# EAGLE library part USB (library usb)
USB Port
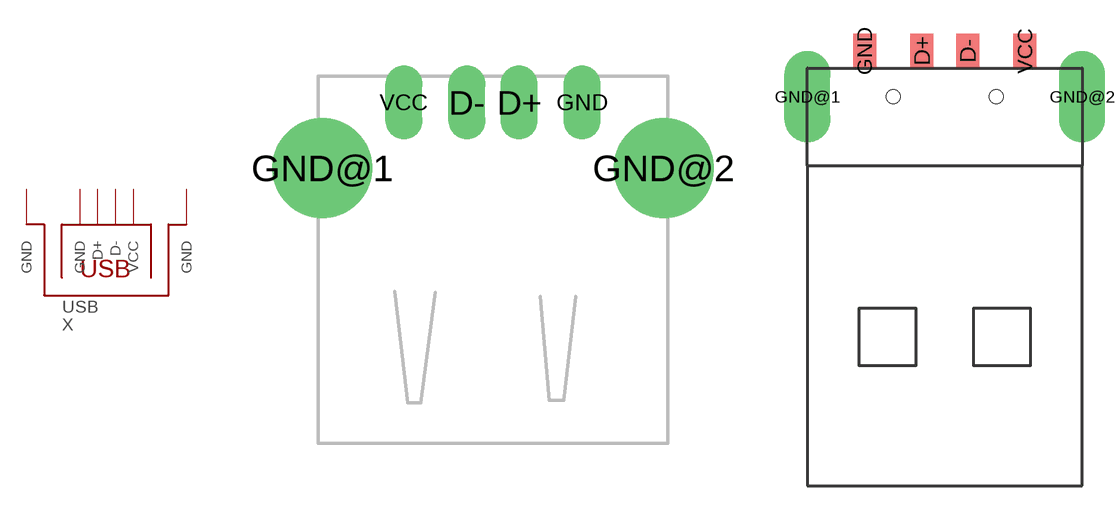
[diagram p3: symbol with the pads of USB-FEMALE; footprints USB-FEMALE, USB]

Designator prefix X

## USB-FEMALE  [USB-FEMALE]
D+  D+
D-  D-
GND  GND  pwr
GND@1  GND  pwr
GND@2  GND  pwr
VCC  VCC  pwr

## USB-MALE  [USB]
D+  D+
D-  D-
GND  GND  pwr
GND@1  GND  pwr
GND@2  GND  pwr
VCC  VCC  pwr

## Footprint USB-FEMALE (pad centres in mm)
drill 0.9 long: D+ 4.4,0; D- 2.4,0; GND 6.8,0; VCC 0,0
drill 2.3 pad 3.81: GND@1 -3.1,-2.5; GND@2 9.9,-2.5

## Footprint USB (pad centres in mm)
smd 1.016 x 1.524: D+ -1.016,5.08; D- 1.016,5.08; GND -3.556,5.08; VCC 3.556,5.08
drill 0.5 pad 2.032 long: GND@1 -6.096,3.048; GND@2 6.096,3.048
hole 0.6 at -2.286,3.048
hole 0.6 at 2.286,3.048